# Altium schematic symbol library FB0402.SchLib: 2 symbols
Pins are listed as number, name and electrical type; pins without a type are passive.

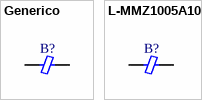
[diagram p0: symbols Generico to L-MMZ1005A10]

## Generico
designator B?
Manufacturer Part Number: *; Working Temperature: *; Temperature Coefficient: *; Mounting: *; Short Description: *; Power: *; Ratings: *; Type: *; Frequency: *; Alternate Part Number 1: *; Alternate Part Number 2: *; Manufacturer: *; Tolerance: *; Current: *; Revision Date: *; Package Reference: *; Voltage: *; Value: *
footprint FB0402 (Footprint not found)
pins: 1, 2

## L-MMZ1005A10
designator B?
1 kOhms @ 100 MHz 1 Signal Line Ferrite Bead 0402 (1005 Metric) 250mA 1.25Ohm; Manufacturer Part Number: MMZ1005A102ET000; Manufacturer: TDK Corporation; Working Temperature: -55°C ~ 125°C; Temperature Coefficient: NC; Short Description: FERRITE BEAD 1 KOHM 0402 1LN; Ratings: REACH, ROHS3; Mounting: SMT; Power: NC; Type: Ferrite; Frequency: NC; Alternate Part Number 1: *; Alternate Part Number 2: *; Tolerance: NC; Current: 250mA; Revision Date: 02/08/21; Package Reference: 0402; Voltage: NC; Value: 1 kOhms @ 100 MHz
footprint FB0402 (Footprint not found)
pins: 1, 2